# Altium footprint library SOT223.PcbLib: 1 footprints
Each footprint in its own frame and in the unit in brackets; x right, y up, seen from the top. Pads: shape width x height; smd on the part's side, far side on the other; paste and mask are expansions set on the pad; w line width, h text height; cw(c..) or ccw(c..) is an arc to the next point about the centre after c.
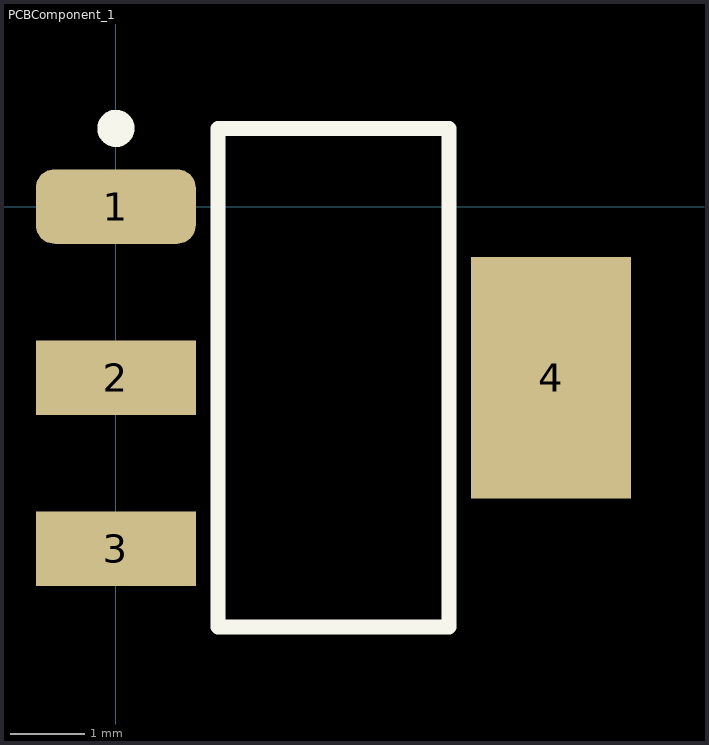
[diagram p0: the footprint, top view; thin cyan lines are the x and y axes]

## PCBComponent_1 [mm] "SOT223, 4-Leads, Body 6,50x7,00mm (avg), Pitch 2,30mm, IPC Medium Density"
pads (4):
  rrect50% 2.15x1 smd: 1(0,0)
  rect 2.15x1 smd: 2(0,-2.3) 3(0,-4.6)
  rect 2.15x3.25 smd: 4(5.85,-2.3)
Top Overlay:
  circle w0.25: c0,1.05 r0.125
  lines w0.2: 1.375,-5.65 4.475,-5.65 4.475,1.05 1.375,1.05 1.375,-5.65
3D body "SOT223.step": height 1.8, standoff 0, extent -0.5,-5.65 6.5,1.05